# Altium schematic symbol library avago-sensor.SchLib: 1 symbol
Pins are listed as number, name and electrical type; pins without a type are passive.

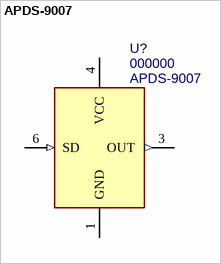
[diagram p0: symbol APDS-9007]

## APDS-9007
designator U?, comment 000000  value APDS-9007
Ambient Light Photo Sensor with Logarithmic Current Output; Package: SMD-6; PN: 000000; ExtraInfo: *
footprint 2X2.4MM-6 (Photosensor 2mm X 2.4mm 6 Pins)
footprint 2X2.4MM-6.4 (Photosensor 2mm X 2.4mm 6 Pins)
pins: 1 GND (power), 3 OUT (out), 4 VCC (power), 6 SD (in)